# Altium integrated library TI Power Management Switching Regulator Charge Pump (Inductorless).IntLib: 239 symbols (part 7 of 14)
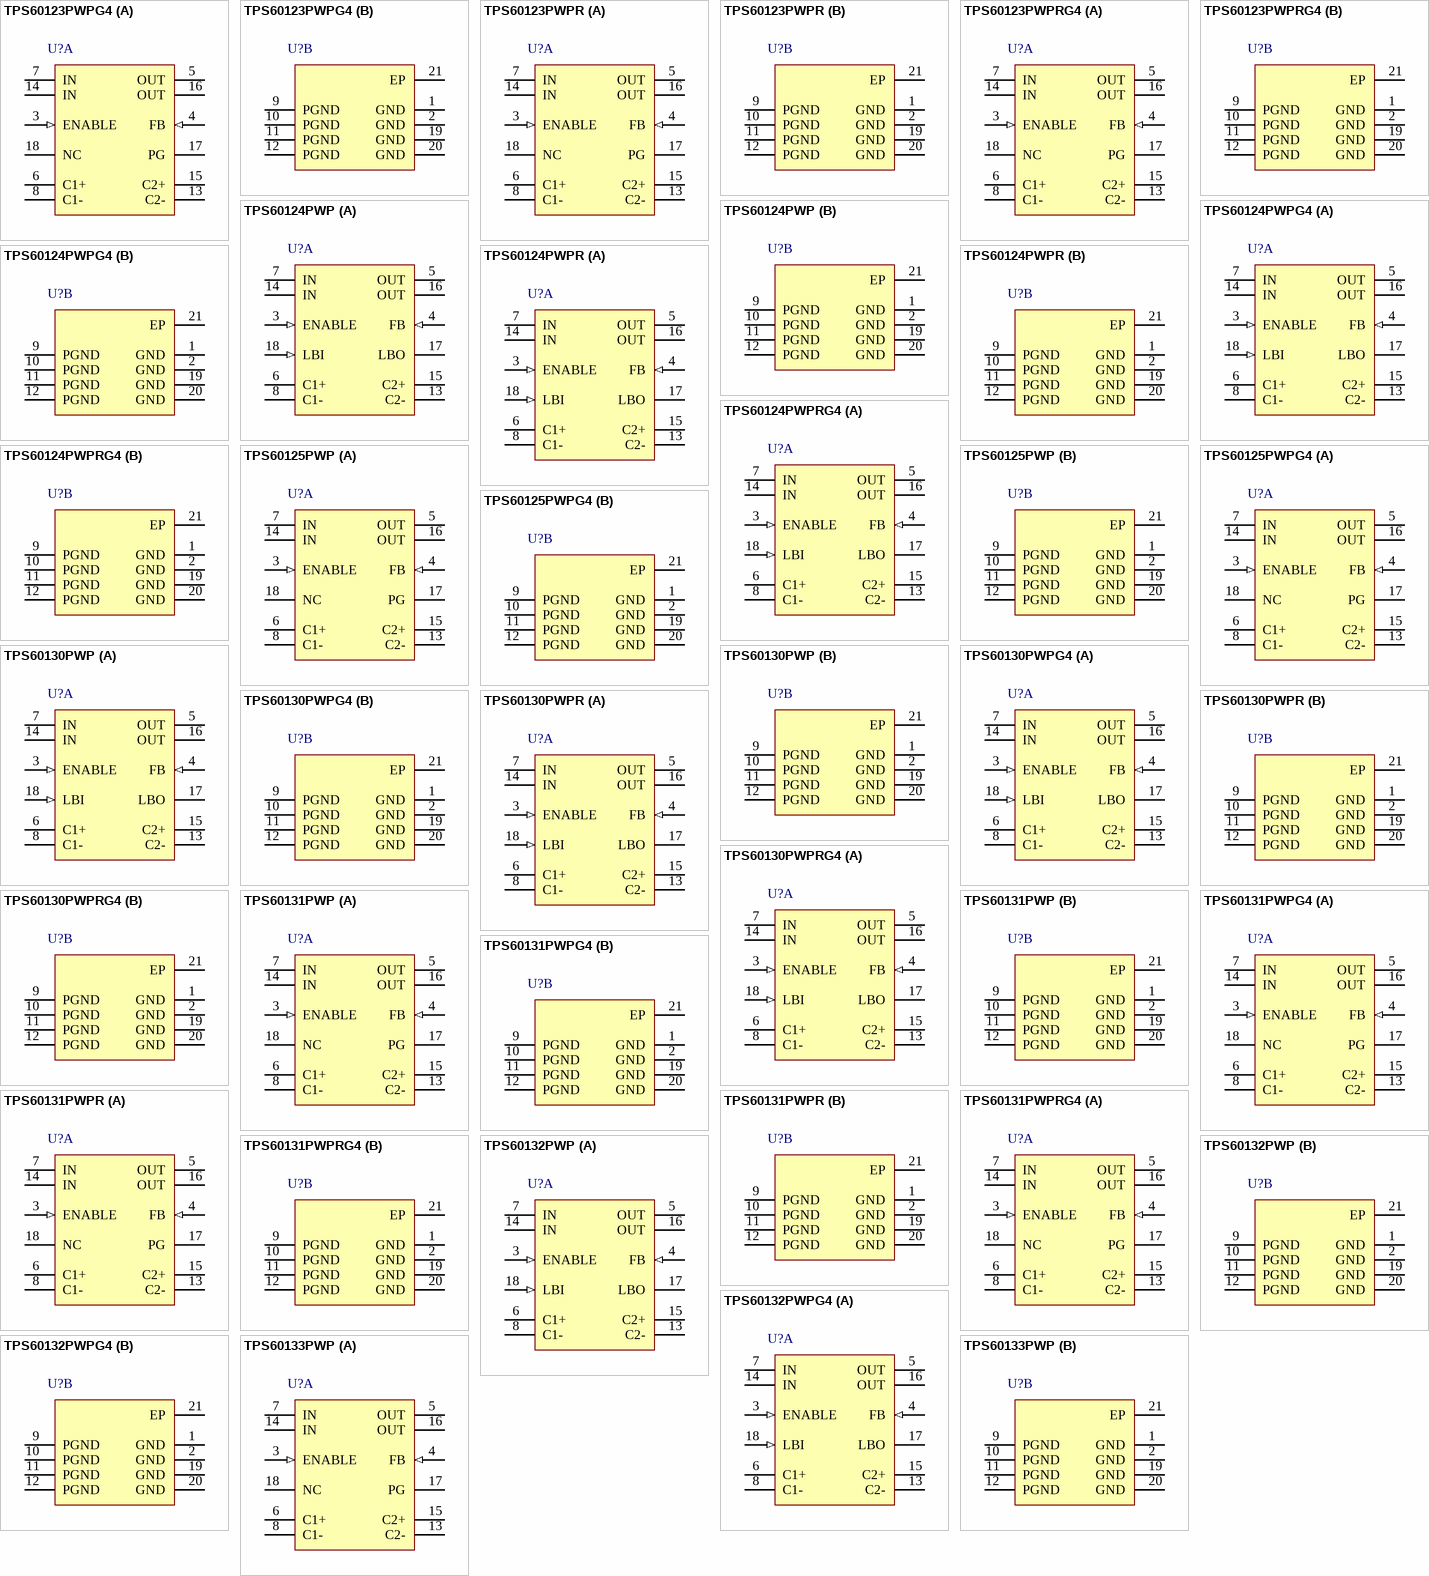
[diagram p13: symbols TPS60123PWPG4 to TPS60133PWP]

## TPS60133PWP
designator U?
5 V, Boost Charge Pump, 150 mA, 2.7 to 5.4 V Input, -40 to 85 degC, 20-pin SOP (PWP20), Green (RoHS & no Sb/Br); Manufacturer: Texas Instruments; PartNumber: TPS60133PWP; Efficiency(Typ)(%): 85; Iout(Max)(A): 0.15; Iq(Typ)(mA): 0.06; Preset Vout(V): 5; Switching Frequency(Max)(kHz): 450; Vin(Max)(V): 5.4; Vin(Min)(V): 2.7; Vout(Max)(V): 4.8; Vout(Min)(V): 5.2; DatasheetVersion: SLVS258A; PackageVersion: 4073225-4/I; PackageReference: PWP20-2680X1950TP; PackageDescription: 20-Pin Plastic Small Outline, Body 6.5 x 4.4 mm, Pitch 0.65 mm; Supplier 1: Digi-Key; Supplier Part Number 1: 296-2274-5-ND; Supplier 2: Newark; Supplier Part Number 2: 19C9056; Supplier 3: Mouser; Supplier Part Number 3: 595-TPS60133PWP; Eco-Plan: Green (RoHS & no Sb/Br); Topology: Boost; Mounting Technology: Surface Mount; Code_JEDEC: MO-153; ComponentLink1Description: Manufacturer URL; ComponentLink1URL: http://www.ti.com/; ComponentLink2Description: Datasheet; ComponentLink2URL: http://www.ti.com/general/docs/lit/getliterature.tsp?genericPartNumber=TPS60133&fileType=pdf; ComponentLink3Description: Package Specification; ComponentLink3URL: http://www.ti.com/litv/pdf/mhts001g
footprint TI-PWP20-2680X1950TP_N (SOP, 20-Leads, Body 6.4x4.4mm, Pitch 0.65mm, Thermal Pad 1.95x2.675mm, IPC Medium Density)
footprint TI-PWP20-2680X1950TP_L (SOP, 20-Leads, Body 6.4x4.4mm, Pitch 0.65mm, Thermal Pad 1.95x2.675mm, IPC High Density)
footprint TI-PWP20-2680X1950TP_M (SOP, 20-Leads, Body 6.4x4.4mm, Pitch 0.65mm, Thermal Pad 1.95x2.675mm, IPC Low Density)
part A pins: 3 ENABLE (in) "ENABLE input. Connect ENABLE to IN for normal operation. When ENABLE is a logic low, the device turns off and the supply current decreases to 0.05 uA. The output is disconnected from the input when the device is placed in (See Datasheet)", 4 FB (in) "Feedback input. Connect FB to OUT as close to the load as possible to achieve best regulation. Resistive divider is on the chip to match the internal reference voltage of 1.21 V.", 5 OUT (power) "Regulated power output. Connect both OUT terminals through a short trace and bypass OUT to GND with the output filter capacitor CO.", 6 C1+ "Positive terminal of the flying capacitor C1", 7 IN (power) "Supply input. Connect to an input supply in the 1.8-V to 3.6-V range. Bypass IN to PGND with a (CO/2) uF capacitor. Connect both INs through a short trace.", 8 C1- "Negative terminal of the flying capacitor C1", 13 C2- "Negative terminal of the flying capacitor C2", 14 IN (power) "Supply input. Connect to an input supply in the 1.8-V to 3.6-V range. Bypass IN to PGND with a (CO/2) uF capacitor. Connect both INs through a short trace.", 15 C2+ "Positive terminal of the flying capacitor C2", 16 OUT (power) "Regulated power output. Connect both OUT terminals through a short trace and bypass OUT to GND with the output filter capacitor CO.", 17 PG (hiz) "Low battery detector output or power good output. Open drain output of the low battery or power-good comparator. It can sink 1 mA. A 100-kohm to 1-Mohm pullup is recommended. Leave terminal unconnected if not used.", 18 NC "On the TPS60123, this terminal is not connected."
part B pins: 1 GND (power) "Feedback input. Connect FB to OUT as close to the load as possible to achieve best regulation. Resistive divider is on the chip to match the internal reference voltage of 1.21 V.", 2 GND (power) "Feedback input. Connect FB to OUT as close to the load as possible to achieve best regulation. Resistive divider is on the chip to match the internal reference voltage of 1.21 V.", 9 PGND (power) "Power ground. Charge-pump current flows through this pin. Connect all PGND pins together.", 10 PGND (power) "Power ground. Charge-pump current flows through this pin. Connect all PGND pins together.", 11 PGND (power) "Power ground. Charge-pump current flows through this pin. Connect all PGND pins together.", 12 PGND (power) "Power ground. Charge-pump current flows through this pin. Connect all PGND pins together.", 19 GND (power) "Feedback input. Connect FB to OUT as close to the load as possible to achieve best regulation. Resistive divider is on the chip to match the internal reference voltage of 1.21 V.", 20 GND (power) "Feedback input. Connect FB to OUT as close to the load as possible to achieve best regulation. Resistive divider is on the chip to match the internal reference voltage of 1.21 V.", 21 EP "Thermal Pad"

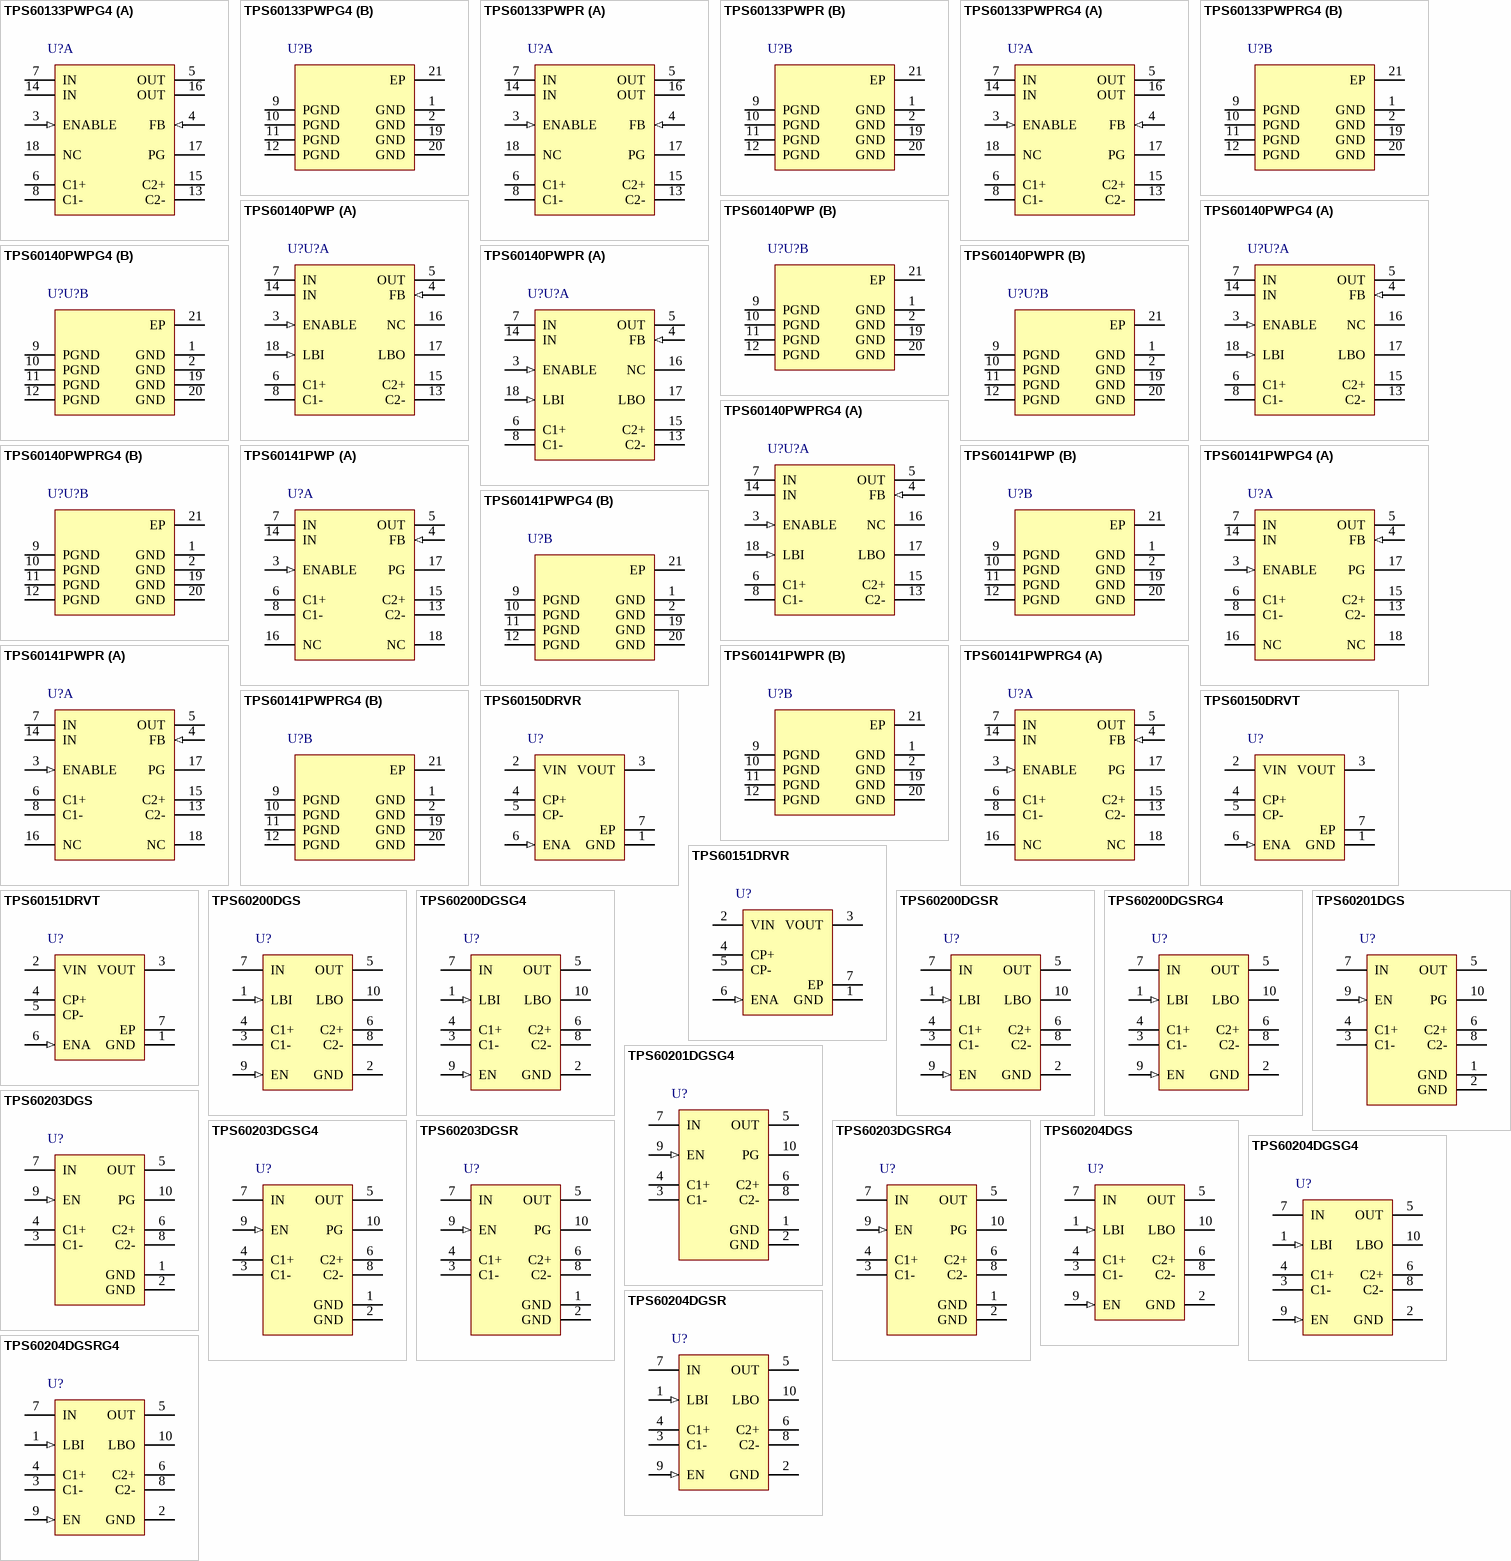
[diagram p4: symbols TPS60133PWPG4 to TPS60204DGSRG4]

## TPS60133PWPG4
designator U?
5 V, Boost Charge Pump, 150 mA, 2.7 to 5.4 V Input, -40 to 85 degC, 20-pin SOP (PWP20), Green (RoHS & no Sb/Br); Manufacturer: Texas Instruments; PartNumber: TPS60133PWPG4; Efficiency(Typ)(%): 85; Iout(Max)(A): 0.15; Iq(Typ)(mA): 0.06; Preset Vout(V): 5; Switching Frequency(Max)(kHz): 450; Vin(Max)(V): 5.4; Vin(Min)(V): 2.7; Vout(Max)(V): 4.8; Vout(Min)(V): 5.2; DatasheetVersion: SLVS258A; PackageVersion: 4073225-4/I; PackageReference: PWP20-2680X1950TP; PackageDescription: 20-Pin Plastic Small Outline, Body 6.5 x 4.4 mm, Pitch 0.65 mm; Supplier 1: Digi-Key; Supplier Part Number 1: TPS60133PWPG4-ND; Supplier 2: Mouser; Supplier Part Number 2: 595-TPS60133PWPG4; Eco-Plan: Green (RoHS & no Sb/Br); Topology: Boost; Mounting Technology: Surface Mount; Code_JEDEC: MO-153; ComponentLink1Description: Manufacturer URL; ComponentLink1URL: http://www.ti.com/; ComponentLink2Description: Datasheet; ComponentLink2URL: http://www.ti.com/general/docs/lit/getliterature.tsp?genericPartNumber=TPS60133&fileType=pdf; ComponentLink3Description: Package Specification; ComponentLink3URL: http://www.ti.com/litv/pdf/mhts001g
footprint TI-PWP20-2680X1950TP_N (SOP, 20-Leads, Body 6.4x4.4mm, Pitch 0.65mm, Thermal Pad 1.95x2.675mm, IPC Medium Density)
footprint TI-PWP20-2680X1950TP_L (SOP, 20-Leads, Body 6.4x4.4mm, Pitch 0.65mm, Thermal Pad 1.95x2.675mm, IPC High Density)
footprint TI-PWP20-2680X1950TP_M (SOP, 20-Leads, Body 6.4x4.4mm, Pitch 0.65mm, Thermal Pad 1.95x2.675mm, IPC Low Density)
part A pins: 3 ENABLE (in) "ENABLE input. Connect ENABLE to IN for normal operation. When ENABLE is a logic low, the device turns off and the supply current decreases to 0.05 uA. The output is disconnected from the input when the device is placed in (See Datasheet)", 4 FB (in) "Feedback input. Connect FB to OUT as close to the load as possible to achieve best regulation. Resistive divider is on the chip to match the internal reference voltage of 1.21 V.", 5 OUT (power) "Regulated power output. Connect both OUT terminals through a short trace and bypass OUT to GND with the output filter capacitor CO.", 6 C1+ "Positive terminal of the flying capacitor C1", 7 IN (power) "Supply input. Connect to an input supply in the 1.8-V to 3.6-V range. Bypass IN to PGND with a (CO/2) uF capacitor. Connect both INs through a short trace.", 8 C1- "Negative terminal of the flying capacitor C1", 13 C2- "Negative terminal of the flying capacitor C2", 14 IN (power) "Supply input. Connect to an input supply in the 1.8-V to 3.6-V range. Bypass IN to PGND with a (CO/2) uF capacitor. Connect both INs through a short trace.", 15 C2+ "Positive terminal of the flying capacitor C2", 16 OUT (power) "Regulated power output. Connect both OUT terminals through a short trace and bypass OUT to GND with the output filter capacitor CO.", 17 PG (hiz) "Low battery detector output or power good output. Open drain output of the low battery or power-good comparator. It can sink 1 mA. A 100-kohm to 1-Mohm pullup is recommended. Leave terminal unconnected if not used.", 18 NC "On the TPS60123, this terminal is not connected."
part B pins: 1 GND (power) "Feedback input. Connect FB to OUT as close to the load as possible to achieve best regulation. Resistive divider is on the chip to match the internal reference voltage of 1.21 V.", 2 GND (power) "Feedback input. Connect FB to OUT as close to the load as possible to achieve best regulation. Resistive divider is on the chip to match the internal reference voltage of 1.21 V.", 9 PGND (power) "Power ground. Charge-pump current flows through this pin. Connect all PGND pins together.", 10 PGND (power) "Power ground. Charge-pump current flows through this pin. Connect all PGND pins together.", 11 PGND (power) "Power ground. Charge-pump current flows through this pin. Connect all PGND pins together.", 12 PGND (power) "Power ground. Charge-pump current flows through this pin. Connect all PGND pins together.", 19 GND (power) "Feedback input. Connect FB to OUT as close to the load as possible to achieve best regulation. Resistive divider is on the chip to match the internal reference voltage of 1.21 V.", 20 GND (power) "Feedback input. Connect FB to OUT as close to the load as possible to achieve best regulation. Resistive divider is on the chip to match the internal reference voltage of 1.21 V.", 21 EP "Thermal Pad"

## TPS60133PWPR
designator U?
5 V, Boost Charge Pump, 150 mA, 2.7 to 5.4 V Input, -40 to 85 degC, 20-pin SOP (PWP20), Green (RoHS & no Sb/Br); Manufacturer: Texas Instruments; PartNumber: TPS60133PWPR; Efficiency(Typ)(%): 85; Iout(Max)(A): 0.15; Iq(Typ)(mA): 0.06; Preset Vout(V): 5; Switching Frequency(Max)(kHz): 450; Vin(Max)(V): 5.4; Vin(Min)(V): 2.7; Vout(Max)(V): 4.8; Vout(Min)(V): 5.2; DatasheetVersion: SLVS258A; PackageVersion: 4073225-4/I; PackageReference: PWP20-2680X1950TP; PackageDescription: 20-Pin Plastic Small Outline, Body 6.5 x 4.4 mm, Pitch 0.65 mm; Supplier 1: Digi-Key; Supplier Part Number 1: TPS60133PWPR-ND; Supplier 2: Newark; Supplier Part Number 2: 77C0573; Supplier 3: Mouser; Supplier Part Number 3: 595-TPS60133PWPR; Eco-Plan: Green (RoHS & no Sb/Br); Topology: Boost; Mounting Technology: Surface Mount; Code_JEDEC: MO-153; ComponentLink1Description: Manufacturer URL; ComponentLink1URL: http://www.ti.com/; ComponentLink2Description: Datasheet; ComponentLink2URL: http://www.ti.com/general/docs/lit/getliterature.tsp?genericPartNumber=TPS60133&fileType=pdf; ComponentLink3Description: Package Specification; ComponentLink3URL: http://www.ti.com/litv/pdf/mhts001g
footprint TI-PWP20-2680X1950TP_N (SOP, 20-Leads, Body 6.4x4.4mm, Pitch 0.65mm, Thermal Pad 1.95x2.675mm, IPC Medium Density)
footprint TI-PWP20-2680X1950TP_L (SOP, 20-Leads, Body 6.4x4.4mm, Pitch 0.65mm, Thermal Pad 1.95x2.675mm, IPC High Density)
footprint TI-PWP20-2680X1950TP_M (SOP, 20-Leads, Body 6.4x4.4mm, Pitch 0.65mm, Thermal Pad 1.95x2.675mm, IPC Low Density)
part A pins: 3 ENABLE (in) "ENABLE input. Connect ENABLE to IN for normal operation. When ENABLE is a logic low, the device turns off and the supply current decreases to 0.05 uA. The output is disconnected from the input when the device is placed in (See Datasheet)", 4 FB (in) "Feedback input. Connect FB to OUT as close to the load as possible to achieve best regulation. Resistive divider is on the chip to match the internal reference voltage of 1.21 V.", 5 OUT (power) "Regulated power output. Connect both OUT terminals through a short trace and bypass OUT to GND with the output filter capacitor CO.", 6 C1+ "Positive terminal of the flying capacitor C1", 7 IN (power) "Supply input. Connect to an input supply in the 1.8-V to 3.6-V range. Bypass IN to PGND with a (CO/2) uF capacitor. Connect both INs through a short trace.", 8 C1- "Negative terminal of the flying capacitor C1", 13 C2- "Negative terminal of the flying capacitor C2", 14 IN (power) "Supply input. Connect to an input supply in the 1.8-V to 3.6-V range. Bypass IN to PGND with a (CO/2) uF capacitor. Connect both INs through a short trace.", 15 C2+ "Positive terminal of the flying capacitor C2", 16 OUT (power) "Regulated power output. Connect both OUT terminals through a short trace and bypass OUT to GND with the output filter capacitor CO.", 17 PG (hiz) "Low battery detector output or power good output. Open drain output of the low battery or power-good comparator. It can sink 1 mA. A 100-kohm to 1-Mohm pullup is recommended. Leave terminal unconnected if not used.", 18 NC "On the TPS60123, this terminal is not connected."
part B pins: 1 GND (power) "Feedback input. Connect FB to OUT as close to the load as possible to achieve best regulation. Resistive divider is on the chip to match the internal reference voltage of 1.21 V.", 2 GND (power) "Feedback input. Connect FB to OUT as close to the load as possible to achieve best regulation. Resistive divider is on the chip to match the internal reference voltage of 1.21 V.", 9 PGND (power) "Power ground. Charge-pump current flows through this pin. Connect all PGND pins together.", 10 PGND (power) "Power ground. Charge-pump current flows through this pin. Connect all PGND pins together.", 11 PGND (power) "Power ground. Charge-pump current flows through this pin. Connect all PGND pins together.", 12 PGND (power) "Power ground. Charge-pump current flows through this pin. Connect all PGND pins together.", 19 GND (power) "Feedback input. Connect FB to OUT as close to the load as possible to achieve best regulation. Resistive divider is on the chip to match the internal reference voltage of 1.21 V.", 20 GND (power) "Feedback input. Connect FB to OUT as close to the load as possible to achieve best regulation. Resistive divider is on the chip to match the internal reference voltage of 1.21 V.", 21 EP "Thermal Pad"

## TPS60133PWPRG4
designator U?
5 V, Boost Charge Pump, 150 mA, 2.7 to 5.4 V Input, -40 to 85 degC, 20-pin SOP (PWP20), Green (RoHS & no Sb/Br); Manufacturer: Texas Instruments; PartNumber: TPS60133PWPRG4; Efficiency(Typ)(%): 85; Iout(Max)(A): 0.15; Iq(Typ)(mA): 0.06; Preset Vout(V): 5; Switching Frequency(Max)(kHz): 450; Vin(Max)(V): 5.4; Vin(Min)(V): 2.7; Vout(Max)(V): 5.25; Vout(Min)(V): 4.8; DatasheetVersion: SLVS258A; PackageVersion: 4073225-4/I; PackageReference: PWP20-2680X1950TP; PackageDescription: 20-Pin Plastic Small Outline, Body 6.5 x 4.4 mm, Pitch 0.65 mm; Supplier 1: Digi-Key; Supplier Part Number 1: TPS60133PWPRG4-ND; Supplier 2: Mouser; Supplier Part Number 2: 595-TPS60133PWPRG4; Eco-Plan: Green (RoHS & no Sb/Br); Topology: Boost; Mounting Technology: Surface Mount; Code_JEDEC: MO-153; ComponentLink1Description: Manufacturer URL; ComponentLink1URL: http://www.ti.com/; ComponentLink2Description: Datasheet; ComponentLink2URL: http://www.ti.com/general/docs/lit/getliterature.tsp?genericPartNumber=TPS60133&fileType=pdf; ComponentLink3Description: Package Specification; ComponentLink3URL: http://www.ti.com/litv/pdf/mhts001g
footprint TI-PWP20-2680X1950TP_N (SOP, 20-Leads, Body 6.4x4.4mm, Pitch 0.65mm, Thermal Pad 1.95x2.675mm, IPC Medium Density)
footprint TI-PWP20-2680X1950TP_L (SOP, 20-Leads, Body 6.4x4.4mm, Pitch 0.65mm, Thermal Pad 1.95x2.675mm, IPC High Density)
footprint TI-PWP20-2680X1950TP_M (SOP, 20-Leads, Body 6.4x4.4mm, Pitch 0.65mm, Thermal Pad 1.95x2.675mm, IPC Low Density)
part A pins: 3 ENABLE (in) "ENABLE input. Connect ENABLE to IN for normal operation. When ENABLE is a logic low, the device turns off and the supply current decreases to 0.05 uA. The output is disconnected from the input when the device is placed in (See Datasheet)", 4 FB (in) "Feedback input. Connect FB to OUT as close to the load as possible to achieve best regulation. Resistive divider is on the chip to match the internal reference voltage of 1.21 V.", 5 OUT (power) "Regulated power output. Connect both OUT terminals through a short trace and bypass OUT to GND with the output filter capacitor CO.", 6 C1+ "Positive terminal of the flying capacitor C1", 7 IN (power) "Supply input. Connect to an input supply in the 1.8-V to 3.6-V range. Bypass IN to PGND with a (CO/2) uF capacitor. Connect both INs through a short trace.", 8 C1- "Negative terminal of the flying capacitor C1", 13 C2- "Negative terminal of the flying capacitor C2", 14 IN (power) "Supply input. Connect to an input supply in the 1.8-V to 3.6-V range. Bypass IN to PGND with a (CO/2) uF capacitor. Connect both INs through a short trace.", 15 C2+ "Positive terminal of the flying capacitor C2", 16 OUT (power) "Regulated power output. Connect both OUT terminals through a short trace and bypass OUT to GND with the output filter capacitor CO.", 17 PG (hiz) "Low battery detector output or power good output. Open drain output of the low battery or power-good comparator. It can sink 1 mA. A 100-kohm to 1-Mohm pullup is recommended. Leave terminal unconnected if not used.", 18 NC "On the TPS60123, this terminal is not connected."
part B pins: 1 GND (power) "Feedback input. Connect FB to OUT as close to the load as possible to achieve best regulation. Resistive divider is on the chip to match the internal reference voltage of 1.21 V.", 2 GND (power) "Feedback input. Connect FB to OUT as close to the load as possible to achieve best regulation. Resistive divider is on the chip to match the internal reference voltage of 1.21 V.", 9 PGND (power) "Power ground. Charge-pump current flows through this pin. Connect all PGND pins together.", 10 PGND (power) "Power ground. Charge-pump current flows through this pin. Connect all PGND pins together.", 11 PGND (power) "Power ground. Charge-pump current flows through this pin. Connect all PGND pins together.", 12 PGND (power) "Power ground. Charge-pump current flows through this pin. Connect all PGND pins together.", 19 GND (power) "Feedback input. Connect FB to OUT as close to the load as possible to achieve best regulation. Resistive divider is on the chip to match the internal reference voltage of 1.21 V.", 20 GND (power) "Feedback input. Connect FB to OUT as close to the load as possible to achieve best regulation. Resistive divider is on the chip to match the internal reference voltage of 1.21 V.", 21 EP "Thermal Pad"

## TPS60140PWP
designator U?U?
5 V, Boost Charge Pump, 100 mA, 1.8 to 3.6 V Input with 2-Cell Alkaline / Nixx Input, -40 to 85 degC, 20-pin SOP (PWP20), Green (RoHS & no Sb/Br); Manufacturer: Texas Instruments; PartNumber: TPS60140PWP; 2-Cell Alkaline/Nixx Input: TRUE; Efficiency(Typ)(%): 70; Iout(Max)(A): 0.1; Iq(Typ)(mA): 0.065; Preset Vout(V): 5; Switching Frequency(Max)(kHz): 450; Vin(Max)(V): 3.6; Vin(Min)(V): 1.8; Vout(Max)(V): 5.2; Vout(Min)(V): 4.8; DatasheetVersion: SLVS273; PackageVersion: 4073225-4/I; PackageReference: PWP20-2680X1950TP; PackageDescription: 20-Pin Plastic Small Outline, Body 6.5 x 4.4 mm, Pitch 0.65 mm; Supplier 1: Digi-Key; Supplier Part Number 1: 296-2275-5-ND; Supplier 2: Newark; Supplier Part Number 2: 19C9057; Supplier 3: Mouser; Supplier Part Number 3: 595-TPS60140PWP; Eco-Plan: Green (RoHS & no Sb/Br); Topology: Boost; Mounting Technology: Surface Mount; Code_JEDEC: MO-153; ComponentLink1Description: Manufacturer URL; ComponentLink1URL: http://www.ti.com/; ComponentLink2Description: Datasheet; ComponentLink2URL: http://www.ti.com/general/docs/lit/getliterature.tsp?genericPartNumber=TPS60140&fileType=pdf; ComponentLink3Description: Package Specification; ComponentLink3URL: http://www.ti.com/litv/pdf/mhts001g
footprint TI-PWP20-2680X1950TP_N (SOP, 20-Leads, Body 6.4x4.4mm, Pitch 0.65mm, Thermal Pad 1.95x2.675mm, IPC Medium Density)
footprint TI-PWP20-2680X1950TP_L (SOP, 20-Leads, Body 6.4x4.4mm, Pitch 0.65mm, Thermal Pad 1.95x2.675mm, IPC High Density)
footprint TI-PWP20-2680X1950TP_M (SOP, 20-Leads, Body 6.4x4.4mm, Pitch 0.65mm, Thermal Pad 1.95x2.675mm, IPC Low Density)
part A pins: 3 ENABLE (in) "ENABLE input. Connect ENABLE to IN for normal operation. When ENABLE is a logic low, the device turns off and the supply current decreases to 0.05 µA. The output is disconnected from the input when the device is placed in (See Datasheet)", 4 FB (in) "Feedback input. Connect FB to OUT as close to the load as possible to achieve best regulation. Resistive divider is on the chip to match the internal reference voltage of 1.21 V.", 5 OUT (power) "Regulated 5-V power output. Bypass OUT to PGND with the output filter capacitor Co.", 6 C1+ "Positive terminal of the flying capacitor C1", 7 IN (power) "Supply input. Connect to an input supply in the 1.8-V to 3.6-V range. Bypass IN to PGND with a (CO/2) µF capacitor .Connect both INs through a short trace.", 8 C1- "Negative terminal of the flying capacitor C1", 13 C2- "Negative terminal of the flying capacitor C2", 14 IN (power) "Supply input. Connect to an input supply in the 1.8-V to 3.6-V range. Bypass IN to PGND with a (CO/2) µF capacitor .Connect both INs through a short trace.", 15 C2+ "Positive terminal of the flying capacitor C2", 16 NC "Not connected", 17 LBO (hiz) "Low battery detector output (TPS60140) or power good output (TPS60141). Open drain output of the low-battery indicator or power-good comparator. It can sink 1 mA. A 100-k ohm to 1-M ohm pullup is recommended. Leave the (See Datasheet)", 18 LBI (in) "Low battery detector input (TPS60140 only). The voltage applied to this terminal is compared to the internal 1.21-V reference voltage. Connect the terminal to ground if the low-battery comparator is not used. On the (See Datasheet)"
part B pins: 1 GND (power) "Ground. Analog ground for internal reference and control circuitry. Connect to PGND through a short trace.", 2 GND (power) "Ground. Analog ground for internal reference and control circuitry. Connect to PGND through a short trace.", 9 PGND (power) "Power ground. Charge-pump current flows through this pin. Connect all PGND pins together.", 10 PGND (power) "Power ground. Charge-pump current flows through this pin. Connect all PGND pins together.", 11 PGND (power) "Power ground. Charge-pump current flows through this pin. Connect all PGND pins together.", 12 PGND (power) "Power ground. Charge-pump current flows through this pin. Connect all PGND pins together.", 19 GND (power) "Ground. Analog ground for internal reference and control circuitry. Connect to PGND through a short trace.", 20 GND (power) "Ground. Analog ground for internal reference and control circuitry. Connect to PGND through a short trace.", 21 EP "Exposed Thermal Pad."

## TPS60140PWPG4
designator U?U?
5 V, Boost Charge Pump, 100 mA, 1.8 to 3.6 V Input with 2-Cell Alkaline / Nixx Input, -40 to 85 degC, 20-pin SOP (PWP20), Green (RoHS & no Sb/Br); Manufacturer: Texas Instruments; PartNumber: TPS60140PWPG4; 2-Cell Alkaline/Nixx Input: TRUE; Efficiency(Typ)(%): 70; Iout(Max)(A): 0.1; Iq(Typ)(mA): 0.065; Preset Vout(V): 5; Switching Frequency(Max)(kHz): 450; Vin(Max)(V): 3.6; Vin(Min)(V): 1.8; Vout(Max)(V): 5.2; Vout(Min)(V): 4.8; DatasheetVersion: SLVS273; PackageVersion: 4073225-4/I; PackageReference: PWP20-2680X1950TP; PackageDescription: 20-Pin Plastic Small Outline, Body 6.5 x 4.4 mm, Pitch 0.65 mm; Supplier 1: Digi-Key; Supplier Part Number 1: TPS60140PWPG4-ND; Supplier 2: Newark; Supplier Part Number 2: 70K5740; Supplier 3: Mouser; Supplier Part Number 3: 595-TPS60140PWPG4; Eco-Plan: Green (RoHS & no Sb/Br); Topology: Boost; Mounting Technology: Surface Mount; Code_JEDEC: MO-153; ComponentLink1Description: Manufacturer URL; ComponentLink1URL: http://www.ti.com/; ComponentLink2Description: Datasheet; ComponentLink2URL: http://www.ti.com/general/docs/lit/getliterature.tsp?genericPartNumber=TPS60140&fileType=pdf; ComponentLink3Description: Package Specification; ComponentLink3URL: http://www.ti.com/litv/pdf/mhts001g
footprint TI-PWP20-2680X1950TP_N (SOP, 20-Leads, Body 6.4x4.4mm, Pitch 0.65mm, Thermal Pad 1.95x2.675mm, IPC Medium Density)
footprint TI-PWP20-2680X1950TP_L (SOP, 20-Leads, Body 6.4x4.4mm, Pitch 0.65mm, Thermal Pad 1.95x2.675mm, IPC High Density)
footprint TI-PWP20-2680X1950TP_M (SOP, 20-Leads, Body 6.4x4.4mm, Pitch 0.65mm, Thermal Pad 1.95x2.675mm, IPC Low Density)
part A pins: 3 ENABLE (in) "ENABLE input. Connect ENABLE to IN for normal operation. When ENABLE is a logic low, the device turns off and the supply current decreases to 0.05 µA. The output is disconnected from the input when the device is placed in (See Datasheet)", 4 FB (in) "Feedback input. Connect FB to OUT as close to the load as possible to achieve best regulation. Resistive divider is on the chip to match the internal reference voltage of 1.21 V.", 5 OUT (power) "Regulated 5-V power output. Bypass OUT to PGND with the output filter capacitor Co.", 6 C1+ "Positive terminal of the flying capacitor C1", 7 IN (power) "Supply input. Connect to an input supply in the 1.8-V to 3.6-V range. Bypass IN to PGND with a (CO/2) µF capacitor .Connect both INs through a short trace.", 8 C1- "Negative terminal of the flying capacitor C1", 13 C2- "Negative terminal of the flying capacitor C2", 14 IN (power) "Supply input. Connect to an input supply in the 1.8-V to 3.6-V range. Bypass IN to PGND with a (CO/2) µF capacitor .Connect both INs through a short trace.", 15 C2+ "Positive terminal of the flying capacitor C2", 16 NC "Not connected", 17 LBO (hiz) "Low battery detector output (TPS60140) or power good output (TPS60141). Open drain output of the low-battery indicator or power-good comparator. It can sink 1 mA. A 100-k ohm to 1-M ohm pullup is recommended. Leave the (See Datasheet)", 18 LBI (in) "Low battery detector input (TPS60140 only). The voltage applied to this terminal is compared to the internal 1.21-V reference voltage. Connect the terminal to ground if the low-battery comparator is not used. On the (See Datasheet)"
part B pins: 1 GND (power) "Ground. Analog ground for internal reference and control circuitry. Connect to PGND through a short trace.", 2 GND (power) "Ground. Analog ground for internal reference and control circuitry. Connect to PGND through a short trace.", 9 PGND (power) "Power ground. Charge-pump current flows through this pin. Connect all PGND pins together.", 10 PGND (power) "Power ground. Charge-pump current flows through this pin. Connect all PGND pins together.", 11 PGND (power) "Power ground. Charge-pump current flows through this pin. Connect all PGND pins together.", 12 PGND (power) "Power ground. Charge-pump current flows through this pin. Connect all PGND pins together.", 19 GND (power) "Ground. Analog ground for internal reference and control circuitry. Connect to PGND through a short trace.", 20 GND (power) "Ground. Analog ground for internal reference and control circuitry. Connect to PGND through a short trace.", 21 EP "Exposed Thermal Pad."

## TPS60140PWPR
designator U?U?
5 V, Boost Charge Pump, 100 mA, 1.8 to 3.6 V Input with 2-Cell Alkaline / Nixx Input, -40 to 85 degC, 20-pin SOP (PWP20), Green (RoHS & no Sb/Br); Manufacturer: Texas Instruments; PartNumber: TPS60140PWPR; 2-Cell Alkaline/Nixx Input: TRUE; Efficiency(Typ)(%): 70; Iout(Max)(A): 0.1; Iq(Typ)(mA): 0.065; Preset Vout(V): 5; Switching Frequency(Max)(kHz): 450; Vin(Max)(V): 3.6; Vin(Min)(V): 1.8; Vout(Max)(V): 5.2; Vout(Min)(V): 4.8; DatasheetVersion: SLVS273; PackageVersion: 4073225-4/I; PackageReference: PWP20-2680X1950TP; PackageDescription: 20-Pin Plastic Small Outline, Body 6.5 x 4.4 mm, Pitch 0.65 mm; Supplier 1: Digi-Key; Supplier Part Number 1: 296-2275-2-ND; Supplier 2: Digi-Key; Supplier Part Number 2: 296-2275-1-ND; Supplier 3: Digi-Key; Supplier Part Number 3: 296-2275-6-ND; Supplier 4: Newark; Supplier Part Number 4: 77C0575; Supplier 5: Mouser; Supplier Part Number 5: 595-TPS60140PWPR; Eco-Plan: Green (RoHS & no Sb/Br); Topology: Boost; Mounting Technology: Surface Mount; Code_JEDEC: MO-153; ComponentLink1Description: Manufacturer URL; ComponentLink1URL: http://www.ti.com/; ComponentLink2Description: Datasheet; ComponentLink2URL: http://www.ti.com/general/docs/lit/getliterature.tsp?genericPartNumber=TPS60140&fileType=pdf; ComponentLink3Description: Package Specification; ComponentLink3URL: http://www.ti.com/litv/pdf/mhts001g
footprint TI-PWP20-2680X1950TP_N (SOP, 20-Leads, Body 6.4x4.4mm, Pitch 0.65mm, Thermal Pad 1.95x2.675mm, IPC Medium Density)
footprint TI-PWP20-2680X1950TP_L (SOP, 20-Leads, Body 6.4x4.4mm, Pitch 0.65mm, Thermal Pad 1.95x2.675mm, IPC High Density)
footprint TI-PWP20-2680X1950TP_M (SOP, 20-Leads, Body 6.4x4.4mm, Pitch 0.65mm, Thermal Pad 1.95x2.675mm, IPC Low Density)
part A pins: 3 ENABLE (in) "ENABLE input. Connect ENABLE to IN for normal operation. When ENABLE is a logic low, the device turns off and the supply current decreases to 0.05 µA. The output is disconnected from the input when the device is placed in (See Datasheet)", 4 FB (in) "Feedback input. Connect FB to OUT as close to the load as possible to achieve best regulation. Resistive divider is on the chip to match the internal reference voltage of 1.21 V.", 5 OUT (power) "Regulated 5-V power output. Bypass OUT to PGND with the output filter capacitor Co.", 6 C1+ "Positive terminal of the flying capacitor C1", 7 IN (power) "Supply input. Connect to an input supply in the 1.8-V to 3.6-V range. Bypass IN to PGND with a (CO/2) µF capacitor .Connect both INs through a short trace.", 8 C1- "Negative terminal of the flying capacitor C1", 13 C2- "Negative terminal of the flying capacitor C2", 14 IN (power) "Supply input. Connect to an input supply in the 1.8-V to 3.6-V range. Bypass IN to PGND with a (CO/2) µF capacitor .Connect both INs through a short trace.", 15 C2+ "Positive terminal of the flying capacitor C2", 16 NC "Not connected", 17 LBO (hiz) "Low battery detector output (TPS60140) or power good output (TPS60141). Open drain output of the low-battery indicator or power-good comparator. It can sink 1 mA. A 100-k ohm to 1-M ohm pullup is recommended. Leave the (See Datasheet)", 18 LBI (in) "Low battery detector input (TPS60140 only). The voltage applied to this terminal is compared to the internal 1.21-V reference voltage. Connect the terminal to ground if the low-battery comparator is not used. On the (See Datasheet)"
part B pins: 1 GND (power) "Ground. Analog ground for internal reference and control circuitry. Connect to PGND through a short trace.", 2 GND (power) "Ground. Analog ground for internal reference and control circuitry. Connect to PGND through a short trace.", 9 PGND (power) "Power ground. Charge-pump current flows through this pin. Connect all PGND pins together.", 10 PGND (power) "Power ground. Charge-pump current flows through this pin. Connect all PGND pins together.", 11 PGND (power) "Power ground. Charge-pump current flows through this pin. Connect all PGND pins together.", 12 PGND (power) "Power ground. Charge-pump current flows through this pin. Connect all PGND pins together.", 19 GND (power) "Ground. Analog ground for internal reference and control circuitry. Connect to PGND through a short trace.", 20 GND (power) "Ground. Analog ground for internal reference and control circuitry. Connect to PGND through a short trace.", 21 EP "Exposed Thermal Pad."

## TPS60140PWPRG4
designator U?U?
5 V, Boost Charge Pump, 100 mA, 1.8 to 3.6 V Input with 2-Cell Alkaline / Nixx Input, -40 to 85 degC, 20-pin SOP (PWP20), Green (RoHS & no Sb/Br); Manufacturer: Texas Instruments; PartNumber: TPS60140PWPRG4; 2-Cell Alkaline/Nixx Input: TRUE; Efficiency(Typ)(%): 70; Iout(Max)(A): 0.1; Iq(Typ)(mA): 0.065; Preset Vout(V): 5; Switching Frequency(Max)(kHz): 450; Vin(Max)(V): 3.6; Vin(Min)(V): 1.8; Vout(Max)(V): 5.2; Vout(Min)(V): 4.8; DatasheetVersion: SLVS273; PackageVersion: 4073225-4/I; PackageReference: PWP20-2680X1950TP; PackageDescription: 20-Pin Plastic Small Outline, Body 6.5 x 4.4 mm, Pitch 0.65 mm; Supplier 1: Digi-Key; Supplier Part Number 1: TPS60140PWPRG4-ND; Supplier 2: Newark; Supplier Part Number 2: 54K1689; Supplier 3: Mouser; Supplier Part Number 3: 595-TPS60140PWPRG4; Eco-Plan: Green (RoHS & no Sb/Br); Topology: Boost; Mounting Technology: Surface Mount; Code_JEDEC: MO-153; ComponentLink1Description: Manufacturer URL; ComponentLink1URL: http://www.ti.com/; ComponentLink2Description: Datasheet; ComponentLink2URL: http://www.ti.com/general/docs/lit/getliterature.tsp?genericPartNumber=TPS60140&fileType=pdf; ComponentLink3Description: Package Specification; ComponentLink3URL: http://www.ti.com/litv/pdf/mhts001g
footprint TI-PWP20-2680X1950TP_N (SOP, 20-Leads, Body 6.4x4.4mm, Pitch 0.65mm, Thermal Pad 1.95x2.675mm, IPC Medium Density)
footprint TI-PWP20-2680X1950TP_L (SOP, 20-Leads, Body 6.4x4.4mm, Pitch 0.65mm, Thermal Pad 1.95x2.675mm, IPC High Density)
footprint TI-PWP20-2680X1950TP_M (SOP, 20-Leads, Body 6.4x4.4mm, Pitch 0.65mm, Thermal Pad 1.95x2.675mm, IPC Low Density)
part A pins: 3 ENABLE (in) "ENABLE input. Connect ENABLE to IN for normal operation. When ENABLE is a logic low, the device turns off and the supply current decreases to 0.05 µA. The output is disconnected from the input when the device is placed in (See Datasheet)", 4 FB (in) "Feedback input. Connect FB to OUT as close to the load as possible to achieve best regulation. Resistive divider is on the chip to match the internal reference voltage of 1.21 V.", 5 OUT (power) "Regulated 5-V power output. Bypass OUT to PGND with the output filter capacitor Co.", 6 C1+ "Positive terminal of the flying capacitor C1", 7 IN (power) "Supply input. Connect to an input supply in the 1.8-V to 3.6-V range. Bypass IN to PGND with a (CO/2) µF capacitor .Connect both INs through a short trace.", 8 C1- "Negative terminal of the flying capacitor C1", 13 C2- "Negative terminal of the flying capacitor C2", 14 IN (power) "Supply input. Connect to an input supply in the 1.8-V to 3.6-V range. Bypass IN to PGND with a (CO/2) µF capacitor .Connect both INs through a short trace.", 15 C2+ "Positive terminal of the flying capacitor C2", 16 NC "Not connected", 17 LBO (hiz) "Low battery detector output (TPS60140) or power good output (TPS60141). Open drain output of the low-battery indicator or power-good comparator. It can sink 1 mA. A 100-k ohm to 1-M ohm pullup is recommended. Leave the (See Datasheet)", 18 LBI (in) "Low battery detector input (TPS60140 only). The voltage applied to this terminal is compared to the internal 1.21-V reference voltage. Connect the terminal to ground if the low-battery comparator is not used. On the (See Datasheet)"
part B pins: 1 GND (power) "Ground. Analog ground for internal reference and control circuitry. Connect to PGND through a short trace.", 2 GND (power) "Ground. Analog ground for internal reference and control circuitry. Connect to PGND through a short trace.", 9 PGND (power) "Power ground. Charge-pump current flows through this pin. Connect all PGND pins together.", 10 PGND (power) "Power ground. Charge-pump current flows through this pin. Connect all PGND pins together.", 11 PGND (power) "Power ground. Charge-pump current flows through this pin. Connect all PGND pins together.", 12 PGND (power) "Power ground. Charge-pump current flows through this pin. Connect all PGND pins together.", 19 GND (power) "Ground. Analog ground for internal reference and control circuitry. Connect to PGND through a short trace.", 20 GND (power) "Ground. Analog ground for internal reference and control circuitry. Connect to PGND through a short trace.", 21 EP "Exposed Thermal Pad."

## TPS60141PWP
designator U?
5 V, Boost Charge Pump, 100 mA, 1.8 to 3.6 V Input with 2-Cell Alkaline / Nixx Input, -40 to 85 degC, 20-pin SOP (PWP20), Green (RoHS & no Sb/Br); Manufacturer: Texas Instruments; PartNumber: TPS60141PWP; 2-Cell Alkaline/Nixx Input: TRUE; Efficiency(Typ)(%): 70; Iout(Max)(A): 0.1; Iq(Typ)(mA): 0.065; Preset Vout(V): 5; Switching Frequency(Max)(kHz): 450; Vin(Max)(V): 3.6; Vin(Min)(V): 1.8; Vout(Max)(V): 5.2; Vout(Min)(V): 4.8; DatasheetVersion: SLVS273; PackageVersion: 4073225-4/I; PackageReference: PWP20-2680X1950TP; PackageDescription: 20-Pin Plastic Small Outline, Body 6.5 x 4.4 mm, Pitch 0.65 mm; Supplier 1: Digi-Key; Supplier Part Number 1: 296-2276-5-ND; Supplier 2: Newark; Supplier Part Number 2: 19C9058; Supplier 3: Mouser; Supplier Part Number 3: 595-TPS60141PWP; Eco-Plan: Green (RoHS & no Sb/Br); Topology: Boost; Mounting Technology: Surface Mount; Code_JEDEC: MO-153; ComponentLink1Description: Manufacturer URL; ComponentLink1URL: http://www.ti.com/; ComponentLink2Description: Datasheet; ComponentLink2URL: http://www.ti.com/general/docs/lit/getliterature.tsp?genericPartNumber=TPS60141&fileType=pdf; ComponentLink3Description: Package Specification; ComponentLink3URL: http://www.ti.com/litv/pdf/mhts001g
footprint TI-PWP20-2680X1950TP_N (SOP, 20-Leads, Body 6.4x4.4mm, Pitch 0.65mm, Thermal Pad 1.95x2.675mm, IPC Medium Density)
footprint TI-PWP20-2680X1950TP_L (SOP, 20-Leads, Body 6.4x4.4mm, Pitch 0.65mm, Thermal Pad 1.95x2.675mm, IPC High Density)
footprint TI-PWP20-2680X1950TP_M (SOP, 20-Leads, Body 6.4x4.4mm, Pitch 0.65mm, Thermal Pad 1.95x2.675mm, IPC Low Density)
part A pins: 3 ENABLE (in) "ENABLE input. Connect ENABLE to IN for normal operation. When ENABLE is a logic low, the device turns off and the supply current decreases to 0.05 µA. The output is disconnected from the input when the device is placed in (See Datasheet)", 4 FB (in) "Feedback input. Connect FB to OUT as close to the load as possible to achieve best regulation. A resistive divider is on the chip to match the output voltage to the internal reference voltage of 1.21 V.", 5 OUT (power) "Regulated 5-V power output. Bypass OUT to PGND with the output filter capacitor Co.", 6 C1+ "Positive terminal of the flying capacitor C1", 7 IN (power) "Supply input. Bypass IN to PGND with capacitor Ci . Connect both IN terminals through a short trace.", 8 C1- "Negative terminal of the flying capacitor C1", 13 C2- "Negative terminal of the flying capacitor C2", 14 IN (power) "Supply input. Bypass IN to PGND with capacitor Ci . Connect both IN terminals through a short trace.", 15 C2+ "Positive terminal of the flying capacitor C2", 16 NC "Not connected", 17 PG (hiz) "Low battery detector output (TPS60140) or power good output (TPS60141). Open drain output of the low-battery indicator or power-good comparator. It can sink 1 mA. A 100-k ohm to 1-Mohm pullup is recommended. Leave the (See Datasheet)", 18 NC "Low battery detector input (TPS60140 only). The voltage applied to this terminal is compared to the internal 1.21-V reference voltage. Connect the terminal to ground if the low-battery comparator is not used. On the (See Datasheet)"
part B pins: 1 GND (power) "Ground. Analog ground for internal reference and control circuitry. Connect to PGND through a short trace.", 2 GND (power) "Ground. Analog ground for internal reference and control circuitry. Connect to PGND through a short trace.", 9 PGND (power) "Power ground. The charge-pump current flows through this terminal. Connect all PGND terminals together.", 10 PGND (power) "Power ground. The charge-pump current flows through this terminal. Connect all PGND terminals together.", 11 PGND (power) "Power ground. The charge-pump current flows through this terminal. Connect all PGND terminals together.", 12 PGND (power) "Power ground. The charge-pump current flows through this terminal. Connect all PGND terminals together.", 19 GND (power) "Ground. Analog ground for internal reference and control circuitry. Connect to PGND through a short trace.", 20 GND (power) "Ground. Analog ground for internal reference and control circuitry. Connect to PGND through a short trace.", 21 EP

## TPS60141PWPG4
designator U?
5 V, Boost Charge Pump, 100 mA, 1.8 to 3.6 V Input with 2-Cell Alkaline / Nixx Input, -40 to 85 degC, 20-pin SOP (PWP20), Green (RoHS & no Sb/Br); Manufacturer: Texas Instruments; PartNumber: TPS60141PWPG4; 2-Cell Alkaline/Nixx Input: TRUE; Efficiency(Typ)(%): 70; Iout(Max)(A): 0.1; Iq(Typ)(mA): 0.065; Preset Vout(V): 5; Switching Frequency(Max)(kHz): 450; Vin(Max)(V): 3.6; Vin(Min)(V): 1.8; Vout(Max)(V): 5.2; Vout(Min)(V): 4.8; DatasheetVersion: SLVS273; PackageVersion: 4073225-4/I; PackageReference: PWP20-2680X1950TP; PackageDescription: 20-Pin Plastic Small Outline, Body 6.5 x 4.4 mm, Pitch 0.65 mm; Supplier 1: Digi-Key; Supplier Part Number 1: TPS60141PWPG4-ND; Supplier 2: Newark; Supplier Part Number 2: 70K5741; Supplier 3: Mouser; Supplier Part Number 3: 595-TPS60141PWPG4; Eco-Plan: Green (RoHS & no Sb/Br); Topology: Boost; Mounting Technology: Surface Mount; Code_JEDEC: MO-153; ComponentLink1Description: Manufacturer URL; ComponentLink1URL: http://www.ti.com/; ComponentLink2Description: Datasheet; ComponentLink2URL: http://www.ti.com/general/docs/lit/getliterature.tsp?genericPartNumber=TPS60141&fileType=pdf; ComponentLink3Description: Package Specification; ComponentLink3URL: http://www.ti.com/litv/pdf/mhts001g
footprint TI-PWP20-2680X1950TP_N (SOP, 20-Leads, Body 6.4x4.4mm, Pitch 0.65mm, Thermal Pad 1.95x2.675mm, IPC Medium Density)
footprint TI-PWP20-2680X1950TP_L (SOP, 20-Leads, Body 6.4x4.4mm, Pitch 0.65mm, Thermal Pad 1.95x2.675mm, IPC High Density)
footprint TI-PWP20-2680X1950TP_M (SOP, 20-Leads, Body 6.4x4.4mm, Pitch 0.65mm, Thermal Pad 1.95x2.675mm, IPC Low Density)
part A pins: 3 ENABLE (in) "ENABLE input. Connect ENABLE to IN for normal operation. When ENABLE is a logic low, the device turns off and the supply current decreases to 0.05 µA. The output is disconnected from the input when the device is placed in (See Datasheet)", 4 FB (in) "Feedback input. Connect FB to OUT as close to the load as possible to achieve best regulation. A resistive divider is on the chip to match the output voltage to the internal reference voltage of 1.21 V.", 5 OUT (power) "Regulated 5-V power output. Bypass OUT to PGND with the output filter capacitor Co.", 6 C1+ "Positive terminal of the flying capacitor C1", 7 IN (power) "Supply input. Bypass IN to PGND with capacitor Ci . Connect both IN terminals through a short trace.", 8 C1- "Negative terminal of the flying capacitor C1", 13 C2- "Negative terminal of the flying capacitor C2", 14 IN (power) "Supply input. Bypass IN to PGND with capacitor Ci . Connect both IN terminals through a short trace.", 15 C2+ "Positive terminal of the flying capacitor C2", 16 NC "Not connected", 17 PG (hiz) "Low battery detector output (TPS60140) or power good output (TPS60141). Open drain output of the low-battery indicator or power-good comparator. It can sink 1 mA. A 100-k ohm to 1-Mohm pullup is recommended. Leave the (See Datasheet)", 18 NC "Low battery detector input (TPS60140 only). The voltage applied to this terminal is compared to the internal 1.21-V reference voltage. Connect the terminal to ground if the low-battery comparator is not used. On the (See Datasheet)"
part B pins: 1 GND (power) "Ground. Analog ground for internal reference and control circuitry. Connect to PGND through a short trace.", 2 GND (power) "Ground. Analog ground for internal reference and control circuitry. Connect to PGND through a short trace.", 9 PGND (power) "Power ground. The charge-pump current flows through this terminal. Connect all PGND terminals together.", 10 PGND (power) "Power ground. The charge-pump current flows through this terminal. Connect all PGND terminals together.", 11 PGND (power) "Power ground. The charge-pump current flows through this terminal. Connect all PGND terminals together.", 12 PGND (power) "Power ground. The charge-pump current flows through this terminal. Connect all PGND terminals together.", 19 GND (power) "Ground. Analog ground for internal reference and control circuitry. Connect to PGND through a short trace.", 20 GND (power) "Ground. Analog ground for internal reference and control circuitry. Connect to PGND through a short trace.", 21 EP

## TPS60141PWPR
designator U?
5 V, Boost Charge Pump, 100 mA, 1.8 to 3.6 V Input with 2-Cell Alkaline / Nixx Input, -40 to 85 degC, 20-pin SOP (PWP20), Green (RoHS & no Sb/Br); Manufacturer: Texas Instruments; PartNumber: TPS60141PWPR; 2-Cell Alkaline/Nixx Input: TRUE; Efficiency(Typ)(%): 70; Iout(Max)(A): 0.1; Iq(Typ)(mA): 0.065; Preset Vout(V): 5; Switching Frequency(Max)(kHz): 450; Vin(Max)(V): 3.6; Vin(Min)(V): 1.8; Vout(Max)(V): 5.2; Vout(Min)(V): 4.8; DatasheetVersion: SLVS273; PackageVersion: 4073225-4/I; PackageReference: PWP20-2680X1950TP; PackageDescription: 20-Pin Plastic Small Outline, Body 6.5 x 4.4 mm, Pitch 0.65 mm; Supplier 1: Digi-Key; Supplier Part Number 1: 296-2276-2-ND; Supplier 2: Digi-Key; Supplier Part Number 2: 296-2276-1-ND; Supplier 3: Digi-Key; Supplier Part Number 3: 296-2276-6-ND; Supplier 4: Newark; Supplier Part Number 4: 77C0576; Supplier 5: Mouser; Supplier Part Number 5: 595-TPS60141PWPR; Eco-Plan: Green (RoHS & no Sb/Br); Topology: Boost; Mounting Technology: Surface Mount; Code_JEDEC: MO-153; ComponentLink1Description: Manufacturer URL; ComponentLink1URL: http://www.ti.com/; ComponentLink2Description: Datasheet; ComponentLink2URL: http://www.ti.com/general/docs/lit/getliterature.tsp?genericPartNumber=TPS60141&fileType=pdf; ComponentLink3Description: Package Specification; ComponentLink3URL: http://www.ti.com/litv/pdf/mhts001g
footprint TI-PWP20-2680X1950TP_N (SOP, 20-Leads, Body 6.4x4.4mm, Pitch 0.65mm, Thermal Pad 1.95x2.675mm, IPC Medium Density)
footprint TI-PWP20-2680X1950TP_L (SOP, 20-Leads, Body 6.4x4.4mm, Pitch 0.65mm, Thermal Pad 1.95x2.675mm, IPC High Density)
footprint TI-PWP20-2680X1950TP_M (SOP, 20-Leads, Body 6.4x4.4mm, Pitch 0.65mm, Thermal Pad 1.95x2.675mm, IPC Low Density)
part A pins: 3 ENABLE (in) "ENABLE input. Connect ENABLE to IN for normal operation. When ENABLE is a logic low, the device turns off and the supply current decreases to 0.05 µA. The output is disconnected from the input when the device is placed in (See Datasheet)", 4 FB (in) "Feedback input. Connect FB to OUT as close to the load as possible to achieve best regulation. A resistive divider is on the chip to match the output voltage to the internal reference voltage of 1.21 V.", 5 OUT (power) "Regulated 5-V power output. Bypass OUT to PGND with the output filter capacitor Co.", 6 C1+ "Positive terminal of the flying capacitor C1", 7 IN (power) "Supply input. Bypass IN to PGND with capacitor Ci . Connect both IN terminals through a short trace.", 8 C1- "Negative terminal of the flying capacitor C1", 13 C2- "Negative terminal of the flying capacitor C2", 14 IN (power) "Supply input. Bypass IN to PGND with capacitor Ci . Connect both IN terminals through a short trace.", 15 C2+ "Positive terminal of the flying capacitor C2", 16 NC "Not connected", 17 PG (hiz) "Low battery detector output (TPS60140) or power good output (TPS60141). Open drain output of the low-battery indicator or power-good comparator. It can sink 1 mA. A 100-k ohm to 1-Mohm pullup is recommended. Leave the (See Datasheet)", 18 NC "Low battery detector input (TPS60140 only). The voltage applied to this terminal is compared to the internal 1.21-V reference voltage. Connect the terminal to ground if the low-battery comparator is not used. On the (See Datasheet)"
part B pins: 1 GND (power) "Ground. Analog ground for internal reference and control circuitry. Connect to PGND through a short trace.", 2 GND (power) "Ground. Analog ground for internal reference and control circuitry. Connect to PGND through a short trace.", 9 PGND (power) "Power ground. The charge-pump current flows through this terminal. Connect all PGND terminals together.", 10 PGND (power) "Power ground. The charge-pump current flows through this terminal. Connect all PGND terminals together.", 11 PGND (power) "Power ground. The charge-pump current flows through this terminal. Connect all PGND terminals together.", 12 PGND (power) "Power ground. The charge-pump current flows through this terminal. Connect all PGND terminals together.", 19 GND (power) "Ground. Analog ground for internal reference and control circuitry. Connect to PGND through a short trace.", 20 GND (power) "Ground. Analog ground for internal reference and control circuitry. Connect to PGND through a short trace.", 21 EP